# Altium schematic symbol library test.SCHLIB: 10 symbols
Pins are listed as number, name and electrical type; pins without a type are passive.

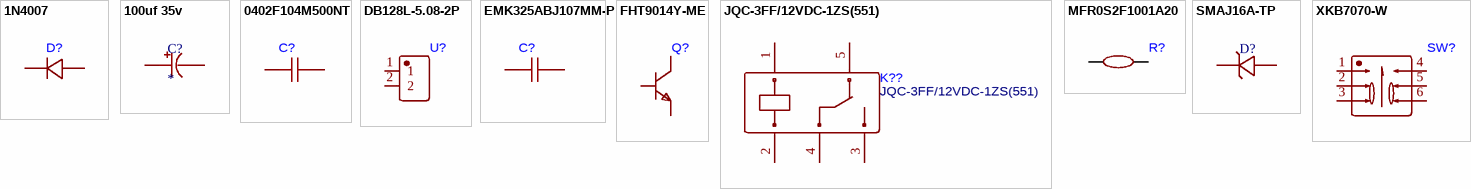
[diagram p0: symbols 1N4007 to XKB7070-W]

## 1N4007
designator D?
footprint SMA_L4.4-W2.6-LS5.0-RD
pins: 1 K, 2 A

## 100uf 35v
designator C?
footprint 100uf-35v
pins: 1, 2

## 0402F104M500NT
designator C?
footprint C0402
pins: 1, 2

## DB128L-5.08-2P
designator U?
footprint CONN-TH_2P-P5.08_DB128L-5.08-2P
pins: 1, 2

## EMK325ABJ107MM-P
designator C?
footprint C1210
pins: 1, 2

## FHT9014Y-ME
designator Q?
footprint SOT-23-3_L2.9-W1.3-P1.90-LS2.4-BR
pins: 1 B, 2 E, 3 C

## JQC-3FF/12VDC-1ZS(551)
designator K??
footprint RELAY-TH_HF3FF/XX-1ZXX(XXX)
pins: 1, 2, 3, 4, 5

## MFR0S2F1001A20
designator R?
footprint R0402
pins: 1, 2

## SMAJ16A-TP
designator D?
footprint SMAJ16A-TP
pins: 1 K, 2 A

## XKB7070-W
designator SW?
footprint SW-TH_6P-L7.2-W7.2-P2.00-LS5.0
pins: 1, 2, 3, 4, 5, 6